# Altium schematic symbol library 1.8inch_14Pin_QDTFT1801.SchLib: 1 symbol
Pins are listed as number, name and electrical type; pins without a type are passive.

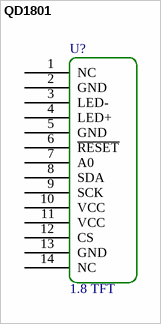
[diagram p0: symbol QD1801]

## QD1801
designator U?, comment 1.8 TFT
1.8inch TFT LCD
footprint TFT177PF254
pins: 1 NC, 2 GND, 3 LED-, 4 LED+, 5 GND, 6 ~{RESET}, 7 A0, 8 SDA, 9 SCK, 10 VCC, 11 VCC, 12 CS, 13 GND, 14 NC
2 alternate drawings of the same symbol